# Altium schematic symbol library ESP32-C3-DEVKITC-02.SchLib: 1 symbol
Pins are listed as number, name and electrical type; pins without a type are passive.

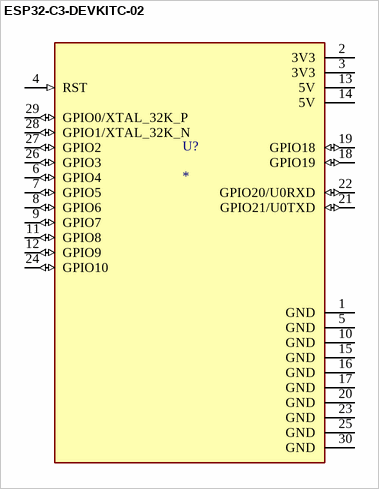
[diagram p0: symbol ESP32-C3-DEVKITC-02]

## ESP32-C3-DEVKITC-02
designator U?
Development Boards & Kits - Wireless (Engineering Samples) ESP32-C3 General-Purpose Development Board, embeds ESP32-C3-WROOM-02, 4 MB Flash, with Pin Header; MP: ESP32-C3-DevKitC-02; MF: Espressif Systems; Purchase-URL: https://pricing.snapeda.com/search/part/ESP32-C3-DevKitC-02/?ref=eda; Package: None; Value: *; Price: None; Availability: In Stock; SnapEDA_Link: https://www.snapeda.com/parts/ESP32-C3-DevKitC-02/Espressif+Systems/view-part/?ref=snap; Check_prices: https://www.snapeda.com/parts/ESP32-C3-DevKitC-02/Espressif+Systems/view-part/?ref=eda
footprint XCVR_ESP32-C3-DEVKITC-02
pins: 1 GND (power), 2 3V3 (power), 3 3V3 (power), 4 RST (in), 5 GND (power), 6 GPIO4 (io), 7 GPIO5 (io), 8 GPIO6 (io), 9 GPIO7 (io), 10 GND (power), 11 GPIO8 (io), 12 GPIO9 (io), 13 5V (power), 14 5V (power), 15 GND (power), 16 GND (power), 17 GND (power), 18 GPIO19 (io), 19 GPIO18 (io), 20 GND (power), 21 GPIO21/U0TXD (io), 22 GPIO20/U0RXD (io), 23 GND (power), 24 GPIO10 (io), 25 GND (power), 26 GPIO3 (io), 27 GPIO2 (io), 28 GPIO1/XTAL_32K_N (io), 29 GPIO0/XTAL_32K_P (io), 30 GND (power)